# Altium footprint library ATXKH11C32768kHzE50T3.PcbLib: 1 footprints
Each footprint in its own frame and in the unit in brackets; x right, y up, seen from the top. Pads: shape width x height; smd on the part's side, far side on the other; paste and mask are expansions set on the pad; w line width, h text height; cw(c..) or ccw(c..) is an arc to the next point about the centre after c.
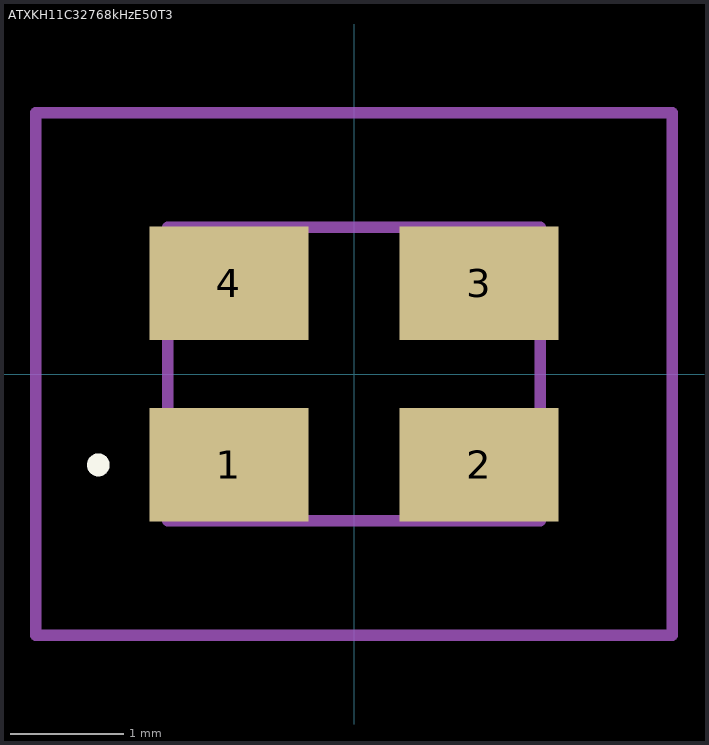
[diagram p0: the footprint, top view; thin cyan lines are the x and y axes]

## ATXKH11C32768kHzE50T3 [mm]
pads (4):
  rect 1.4x1 smd: 1(-1.1,-0.8) 2(1.1,-0.8) 3(1.1,0.8) 4(-1.1,0.8)
Top Overlay:
  lines w0.1: -2.3,-0.8 -2.3,-0.8 ; -2.3,-0.8 ccw(c-2.25,-0.8) -2.2,-0.8 ; -2.3,-0.8 cw(c-2.25,-0.8) -2.2,-0.8 ; -2.2,-0.8 -2.2,-0.8
Mechanical 15:
  lines w0.1: -1.64,-1.29 1.64,-1.29 1.64,1.29 -1.64,1.29 -1.64,-1.29
Mechanical 20:
  lines w0.1: -2.8,-2.3 2.8,-2.3 2.8,2.3 -2.8,2.3 -2.8,-2.3